# Altium footprint library Passives.PcbLib: 72 footprints (part 2 of 5)
Each footprint in its own frame and in the unit in brackets; x right, y up, seen from the top. Pads: shape width x height; smd on the part's side, far side on the other; paste and mask are expansions set on the pad; w line width, h text height; cw(c..) or ccw(c..) is an arc to the next point about the centre after c.
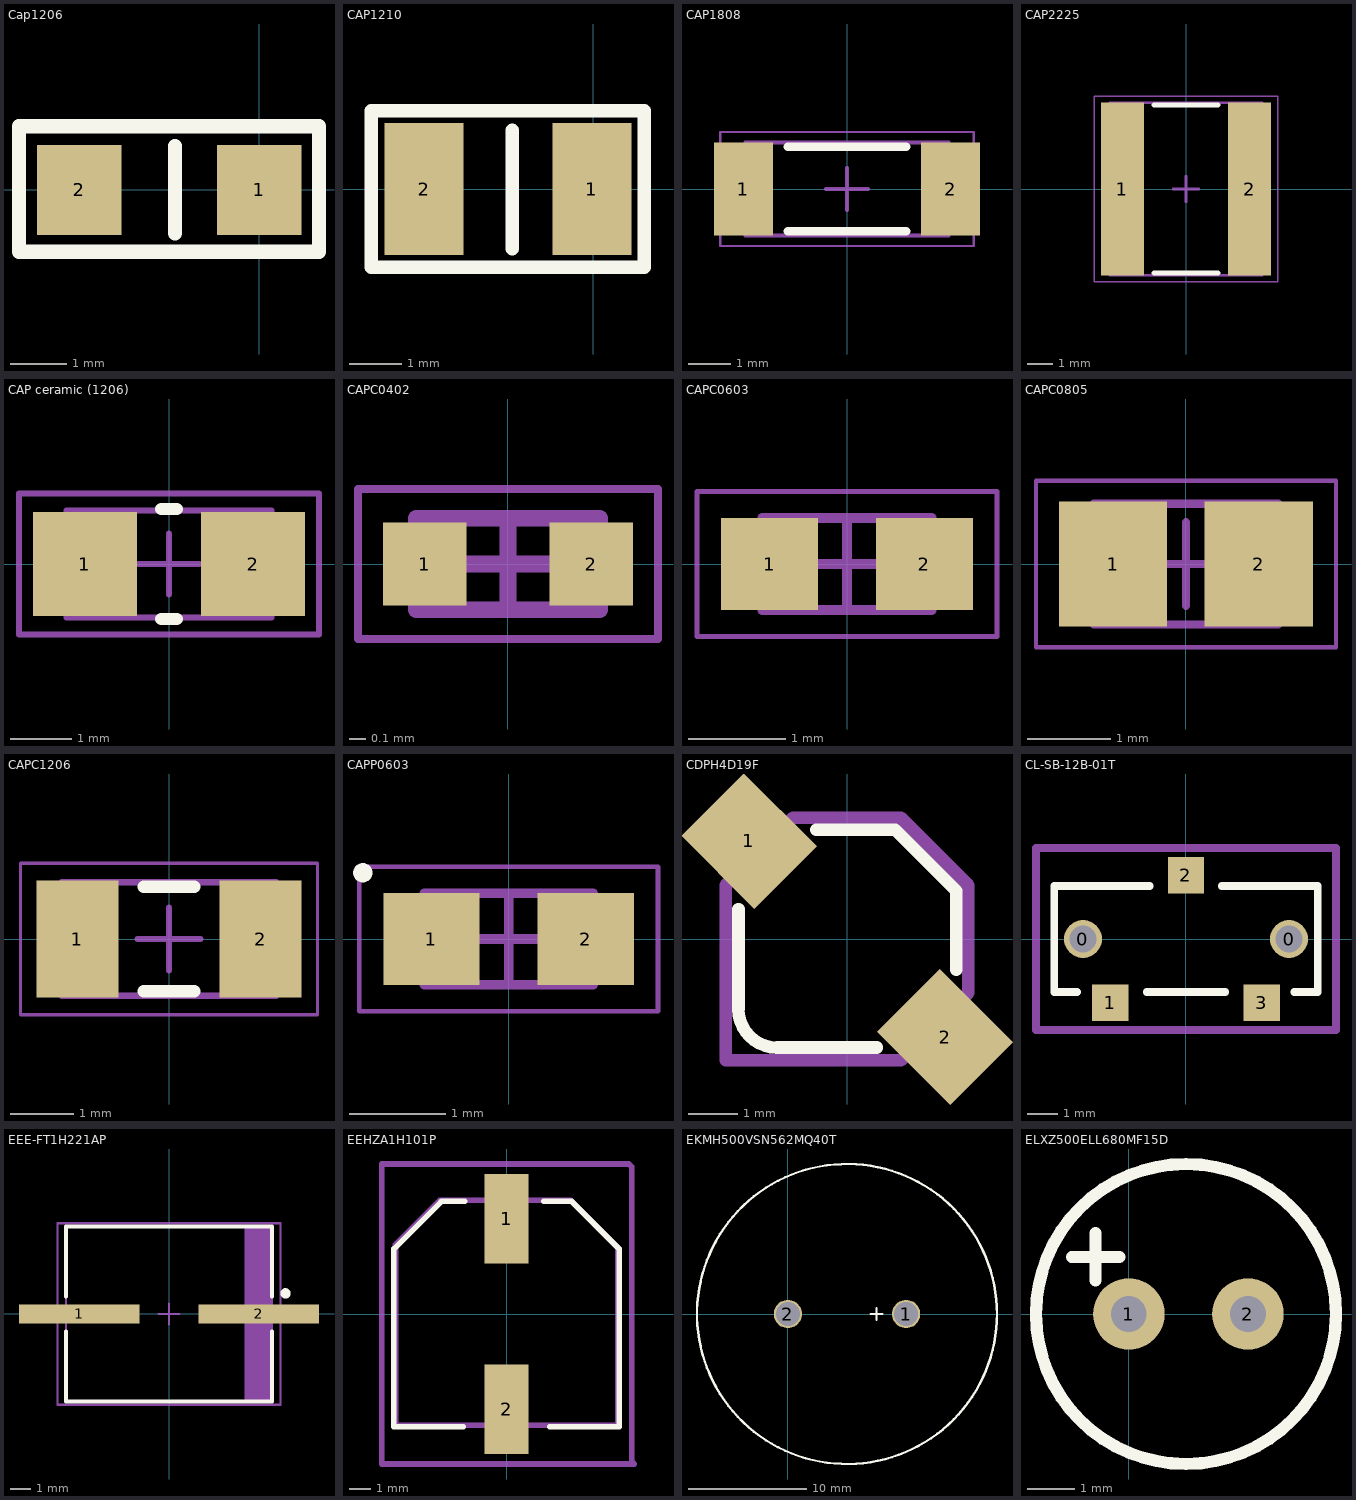
[diagram p1: the footprints below, top view; thin cyan lines are the x and y axes]

## Cap1206 [mm]
height 1.6
pads (2):
  rect 1.5x1.6 smd: 1(0,0) 2(-3.2,0)
Top Overlay:
  lines w0.254: -1.5,-0.77 -1.5,0.78 ; -4.27,-1.1 -4.27,1.13 1.06,1.13 1.06,-1.1 -4.27,-1.1
3D body: height 1.6, standoff 0, extent -3.2,-0.9 0.02,0.9

## CAP1210 [mm]
height 2.5
pads (2):
  rect 1.5x2.5 smd: 1(-0.02,0) 2(-3.2,0)
Top Overlay:
  lines w0.254: -1.53,-1.13 -1.53,1.11 ; -4.2,-1.48 0.97,-1.48 0.97,1.48 -4.2,1.48 -4.2,-1.48
3D body: height 2.5, standoff 0, extent -3.22,-1.25 0,1.26

## CAP1808 [mm] "Chip Capacitor, 2-Leads, Body 4.50x2.00mm, IPC Medium Density"
height 1.8
pads (2):
  rect 1.4x2.2 smd: 1(-2.45,0) 2(2.45,0)
Top Overlay:
  lines w0.2: -1.4,-1 1.4,-1 ; -1.4,1 1.4,1
Mechanical 13:
  lines w0.1: -2.4,-1.1 2.4,-1.1 2.4,1.1 -2.4,1.1 -2.4,-1.1
Mechanical 15:
  lines w0.05: -3,-1.35 3,-1.35 3,1.35 -3,1.35 -3,-1.35
  lines w0.1: -0.5,0 0.5,0 ; 0,-0.5 0,0.5
3D body: height 1.8, standoff 0, extent 2.1,-1.1 2.4,1.1
3D body: height 1.8, standoff 0, extent -2.4,-1.1 -2.1,1.1
3D body: height 1.8, standoff 0, extent -2.1,-1.1 2.1,1.1

## CAP2225 [mm] "Chip Capacitor, 2-Leads, Body 5.60x6.40mm, IPC Medium Density"
height 1.8
pads (2):
  rect 1.7x6.8 smd: 1(-2.5,0) 2(2.5,0)
Top Overlay:
  lines w0.2: -1.25,-3.3 1.25,-3.3 ; -1.25,3.3 1.25,3.3
Mechanical 13:
  lines w0.1: -3,-3.4 3,-3.4 3,3.4 -3,3.4 -3,-3.4
Mechanical 15:
  lines w0.05: -3.6,-3.65 3.6,-3.65 3.6,3.65 -3.6,3.65 -3.6,-3.65
  lines w0.1: -0.5,0 0.5,0 ; 0,-0.5 0,0.5
3D body: height 1.8, standoff 0, extent 2.4,-3.4 3,3.4
3D body: height 1.8, standoff 0, extent -3,-3.4 -2.4,3.4
3D body: height 1.8, standoff 0, extent -2.4,-3.4 2.4,3.4

## CAP ceramic (1206) [mm] "CAP CER 1UF 100V 10% X7R 1206"
height 1.8
pads (2):
  rect 1.7x1.7 smd: 1(-1.375,0) 2(1.375,0)
Top Overlay:
  lines w0.2: -0.125,-0.9 0.125,-0.9 ; -0.125,0.9 0.125,0.9
Mechanical 13:
  lines w0.1: -1.675,-0.875 1.675,-0.875 1.675,0.875 -1.675,0.875 -1.675,-0.875
Mechanical 15:
  lines w0.1: -0.5,0 0.5,0 ; 0,-0.5 0,0.5 ; -2.45,-1.15 2.45,-1.15 2.45,1.15 -2.45,1.15 -2.45,-1.15
3D body: height 1.8, standoff 0, extent -1.675,-0.875 1.675,0.875

## CAPC0402 [mm] "Chip Capacitor, 2-Leads, Body 1.00x0.50mm, IPC Medium Density"
height 0.4
pads (2):
  rect 0.5x0.5 smd: 1(-0.5,0) 2(0.5,0)
Mechanical 13:
  lines w0.1: -0.55,-0.275 0.55,-0.275 0.55,0.275 -0.55,0.275 -0.55,-0.275
Mechanical 15:
  lines w0.05: -0.9,-0.45 0.9,-0.45 0.9,0.45 -0.9,0.45 -0.9,-0.45
  lines w0.1: -0.275,0 0.275,0 ; 0,-0.275 0,0.275
3D body: height 0.4, standoff 0, extent 0.3,-0.275 0.55,0.275
3D body: height 0.4, standoff 0, extent -0.55,-0.275 -0.3,0.275
3D body: height 0.4, standoff 0, extent -0.3,-0.275 0.3,0.275

## CAPC0603 [mm] "Chip Capacitor, 2-Leads, Body 1.60x0.80mm, IPC Medium Density"
height 0.8
pads (2):
  rect 1x0.95 smd: 1(-0.8,0) 2(0.8,0)
Mechanical 13:
  lines w0.1: -0.875,-0.475 0.875,-0.475 0.875,0.475 -0.875,0.475 -0.875,-0.475
Mechanical 15:
  lines w0.05: -1.55,-0.75 1.55,-0.75 1.55,0.75 -1.55,0.75 -1.55,-0.75
  lines w0.1: -0.475,0 0.475,0 ; 0,-0.475 0,0.475
3D body: height 0.8, standoff 0, extent 0.525,-0.475 0.875,0.475
3D body: height 0.8, standoff 0, extent -0.875,-0.475 -0.525,0.475
3D body: height 0.8, standoff 0, extent -0.525,-0.475 0.525,0.475

## CAPC0805 [mm] "Chip Capacitor, 2-Leads, Body 2.01x1.25mm, IPC Medium Density"
height 1.8
pads (2):
  rect 1.3x1.5 smd: 1(-0.875,0) 2(0.875,0)
Mechanical 13:
  lines w0.1: -1.105,-0.725 -1.105,0.725 1.105,0.725 1.105,-0.725 -1.105,-0.725
Mechanical 15:
  lines w0.05: -1.8,-1 -1.8,1 1.8,1 1.8,-1 -1.8,-1
  lines w0.1: -0.5,0 0.5,0 ; 0,-0.5 0,0.5
3D body: height 1.8, standoff 0, extent -0.605,-0.725 0.605,0.725
3D body: height 1.8, standoff 0, extent -1.105,-0.725 -0.605,0.725
3D body: height 1.8, standoff 0, extent 0.605,-0.725 1.105,0.725

## CAPC1206 [mm] "Chip Capacitor, 2-Leads, Body 3.20x1.60mm, IPC Medium Density"
height 1.8
pads (2):
  rect 1.3x1.85 smd: 1(-1.45,0) 2(1.45,0)
Top Overlay:
  lines w0.2: -0.4,-0.825 0.4,-0.825 ; -0.4,0.825 0.4,0.825
Mechanical 13:
  lines w0.1: -1.7,-0.9 -1.7,0.9 1.7,0.9 1.7,-0.9 -1.7,-0.9
Mechanical 15:
  lines w0.05: -2.35,-1.2 -2.35,1.2 2.35,1.2 2.35,-1.2 -2.35,-1.2
  lines w0.1: -0.5,0 0.5,0 ; 0,-0.5 0,0.5
3D body: height 1.8, standoff 0, extent -1.2,-0.9 1.2,0.9
3D body: height 1.8, standoff 0, extent -1.7,-0.9 -1.2,0.9
3D body: height 1.8, standoff 0, extent 1.2,-0.9 1.7,0.9

## CAPP0603 [mm] "Chip Capacitor, 2-Leads, Body 1.60x0.80mm, IPC Medium Density"
height 0.8
pads (2):
  rect 1x0.95 smd: 1(-0.8,0) 2(0.8,0)
Top Overlay:
  circle w0.1: c-1.512,0.687 r0.05
Mechanical 13:
  lines w0.1: -0.875,-0.475 -0.875,0.475 0.875,0.475 0.875,-0.475 -0.875,-0.475
Mechanical 15:
  lines w0.05: -1.55,-0.75 -1.55,0.75 1.55,0.75 1.55,-0.75 -1.55,-0.75
  lines w0.1: -0.475,0 0.475,0 ; 0,-0.475 0,0.475
3D body: height 0.8, standoff 0, extent -0.525,-0.475 0.525,0.475
3D body: height 0.8, standoff 0, extent -0.875,-0.475 -0.525,0.475
3D body: height 0.8, standoff 0, extent 0.525,-0.475 0.875,0.475

## CDPH4D19F [mm] "SMD Power Inductor"
height 2
pads (2):
  rect 1.8x2.1 smd rot 45: 1(-1.98,1.98) 2(1.98,-1.98)
Top Overlay:
  lines w0.254: -2.194,-1.414 ccw(c-1.414,-1.414) -1.414,-2.194 -1.412,-2.192 0.601,-2.192 ; -2.192,-1.412 -2.192,0.601 ; -0.619,2.21 0.972,2.21 2.21,0.972 2.21,-0.619
Mechanical 13:
  lines w0.254: -2.45,-2.45 1.086,-2.45 2.45,-1.086 2.45,1.086 1.086,2.45 -1.086,2.45 -2.45,1.086 -2.45,-2.45
3D body: height 2, standoff 0, extent -2.45,-2.45 2.45,2.45

## CL-SB-12B-01T [mm] "SWITCH SLIDE SPDT 200MA 12V"
height 5.5
pads (5):
  round 1.256 hole 0.9 paste+0 mask+0: 0(-3.4,0) 0(3.4,0)
  rect 1.2x1.2 smd: 1(-2.5,-2.1) 2(0,2.1) 3(2.5,-2.1)
Top Overlay:
  lines w0.254: -3.6,-1.75 -4.35,-1.75 -4.35,1.75 -1.2,1.75 ; -1.3,-1.75 1.3,-1.75 ; 1.175,1.75 4.35,1.75 4.35,-1.75 3.575,-1.75
Mechanical 15:
  lines w0.254: -4.95,-3 -4.95,3 0,3 4.95,3 4.95,-3 -4.95,-3
3D body "CL-SB-12B-01T_2_03.stp": height 5.5, standoff -0.8, extent -4.25,-2.5 4.25,2.5

## EEE-FT1H221AP [mm] "CAP ALUM 220UF 50V 20% SMD"
height 10.5
pads (2):
  rect 5.85x0.9 smd: 1(-4.35,0) 2(4.35,0)
Top Overlay:
  circle w0.25: c5.65,1 r0.125
  lines w0.2: -5,-0.85 -5,-4.25 5,-4.25 5,-0.85 ; -5,0.85 -5,4.25 5,4.25 5,0.85
Mechanical 13:
  rectangle: 3.655,-4.25 5,4.25
  lines w0.1: -5,-4.25 5,-4.25 5,4.25 -5,4.25 -5,-4.25
Mechanical 15:
  lines w0.1: -0.5,0 0.5,0 ; 0,-0.5 0,0.5 ; -5.4,-4.4 5.4,-4.4 5.4,4.4 -5.4,4.4 -5.4,-4.4
3D body: height 10.5, standoff 0, extent -3.968,-3.992 4,3.992

## EEHZA1H101P [mm] "CAP ALUM POLY HYB 100UF 50V SMD"
height 10.5
pads (2):
  rect 2x4.1 smd: 1(0,4.35) 2(0,-4.35)
Top Overlay:
  lines w0.254: -1.975,-5.15 -5.15,-5.15 -5.15,2.978 -2.978,5.15 -1.905,5.15 ; 1.708,5.15 2.978,5.15 5.15,2.978 5.15,-5.15 1.975,-5.15
Mechanical 13:
  lines w0.254: -5.08,-5.08 -5.08,3.175 -3.048,5.207 1.651,5.207 2.921,5.207 5.08,3.048 5.08,-5.08 -5.08,-5.08
Mechanical 15:
  lines w0.254: -5.715,-6.858 -5.715,6.858 5.588,6.858 5.715,6.731 5.715,-6.731 5.842,-6.858 -5.715,-6.858
3D body "CAP_PAN_EEE_G.step": height 10.54, standoff 0, extent -5.245,-5.994 5.245,5.994

## EKMH500VSN562MQ40T [mm] "CAP ALUM 5600UF 50V 20% SNAP"
height 40
pads (2):
  round 2.4 / inner round 2 / far side round 2.4 hole 2: 1(10,0) 2(0,0)
Top Overlay:
  circle w0.2: c5,0 r12.7
  lines w0.2: 6.992,0 8.008,0 ; 7.5,-0.508 7.5,0.508
3D body: height 40, standoff 0, extent -7.7,-12.675 17.6,12.675

## ELXZ500ELL680MF15D [mm] "CAP ALUM 68UF 50V 20% RADIAL"
height 15
pads (2):
  round 1.5 hole 0.75: 1(0,0) 2(2.5,0)
Top Overlay:
  circle w0.254: c1.2,0 r3.15
  lines w0.25: -1.2,1.2 -0.2,1.2 ; -0.7,0.7 -0.7,1.7
3D body: height 15, standoff 0, extent -1.925,-3.144 4.35,3.144